# Altium schematic symbol library Driver_TEC.SchLib: 2 symbols
Pins are listed as number, name and electrical type; pins without a type are passive.

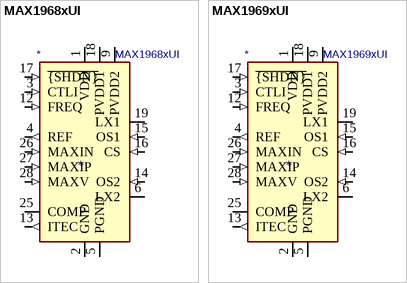
[diagram p0: symbols MAX1968xUI to MAX1969xUI]

## MAX1968xUI
designator *  value MAX1968xUI
ki_keywords: thermoelectric cooler; ki_description: Power Driver for Peltier TEC Modules, +-3A, HTSSOP-28; ki_fp_filters: HTSSOP*4.4x9.7mm*P0.65mm*; Footprint: Package_SO:HTSSOP-28-1EP_4.4x9.7mm_P0.65mm_EP2.85x5.4mm; Supplier: https://datasheets.maximintegrated.com/en/ds/MAX1968-MAX1969.pdf
footprint HTSSOP-28-1EP_4.4x9.7mm_P0.65mm_EP2.85x5.4mm
pins: 1 VDD (power), 2 GND (power), 3 CTLI (in), 4 REF (out), 5 PGND (power), 6 LX2 (power), 7 PGND hidden, 8 LX2 hidden, 9 PVDD2 (power), 10 LX2 hidden, 11 PVDD2 hidden, 12 FREQ (in), 13 ITEC (out), 14 OS2 (in), 15 OS1 (in), 16 CS (in), 17 ~{{SHDN}} (in), 18 PVDD1 (power), 19 LX1 (power), 20 PVDD1 hidden, 21 LX1 hidden, 22 PGND hidden, 23 LX1 hidden, 24 PGND hidden, 25 COMP, 26 MAXIN (in), 27 MAXIP (in), 28 MAXV (in), 29 GND hidden

## MAX1969xUI
designator *  value MAX1969xUI
ki_keywords: thermoelectric cooler; ki_description: Power Driver for Peltier TEC Modules, 6A, HTSSOP-28; ki_fp_filters: HTSSOP*4.4x9.7mm*P0.65mm*; Footprint: Package_SO:HTSSOP-28-1EP_4.4x9.7mm_P0.65mm_EP2.85x5.4mm; Supplier: https://datasheets.maximintegrated.com/en/ds/MAX1968-MAX1969.pdf
footprint HTSSOP-28-1EP_4.4x9.7mm_P0.65mm_EP2.85x5.4mm
pins: 1 VDD (power), 2 GND (power), 3 CTLI (in), 4 REF (out), 5 PGND (power), 6 LX2 (power), 7 PGND hidden, 8 LX2 hidden, 9 PVDD2 (power), 10 LX2 hidden, 11 PVDD2 hidden, 12 FREQ (in), 13 ITEC (out), 14 OS2 (in), 15 OS1 (in), 16 CS (in), 17 ~{{SHDN}} (in), 18 PVDD1 (power), 19 LX1 (power), 20 PVDD1 hidden, 21 LX1 hidden, 22 PGND hidden, 23 LX1 hidden, 24 PGND hidden, 25 COMP, 26 MAXIN (in), 27 MAXIP (in), 28 MAXV (in), 29 GND hidden